# EAGLE library part 74LVC2G66 (library 74XXX-little-logic)
IC SWITCH DUAL 1X1 US8
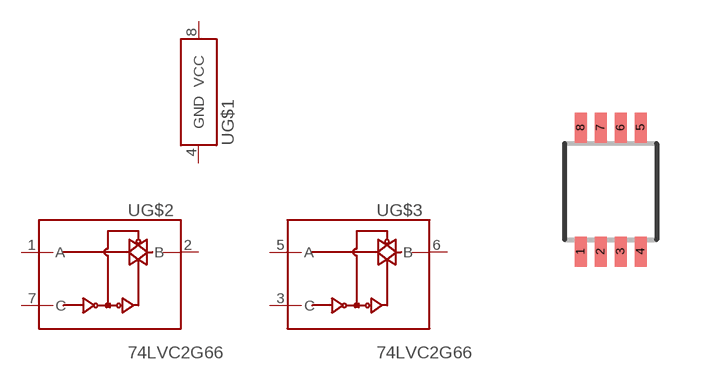
[diagram p12: symbol with the pads of US8-DCU; footprint US8-DCU]

Designator prefix U; gates G$2=74LVC2G66 G$3=74LVC2G66 G$1=PWR+/-

## 74LVC2G66 (DIGIKEY: 296-13272-1-ND; P1I: o)  [US8-DCU]
1  G$2:A
2  G$2:B
3  G$3:C
4  G$1:GND
5  G$3:A
6  G$3:B
7  G$2:C
8  G$1:VCC

## Footprint US8-DCU (pad centres in mm)
US8 - DCU 0.50 mm pitch
smd 0.3 x 0.75: 1 -0.75,-1.5; 2 -0.25,-1.5; 3 0.25,-1.5; 4 0.75,-1.5; 5 0.75,1.6; 6 0.25,1.6; 7 -0.25,1.6; 8 -0.75,1.6